# EAGLE library part BALUN_CC1200 (library Taylor)
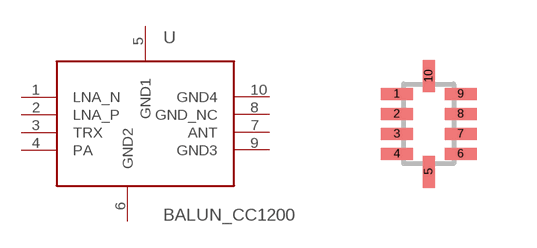
[diagram p45: symbol with the pads of IPC_BALUN_CC1200; footprint IPC_BALUN_CC1200]

Designator prefix -

## BALUN_CC1200  [IPC_BALUN_CC1200]
1  LNA_N
2  LNA_P
3  TRX
4  PA
5  GND1
6  GND2
7  ANT
8  GND_NC
9  GND3
10  GND4

## Footprint IPC_BALUN_CC1200 (pad centres in mm)
smd 0.8 x 0.3: 1 -0.8,0.75; 2 -0.8,0.25; 3 -0.8,-0.25; 4 -0.8,-0.75; 6 0.8,-0.75; 7 0.8,-0.25; 8 0.8,0.25; 9 0.8,0.75
smd 0.3 x 0.8: 5 0,-1.2; 10 0,1.2